# EAGLE library part RX-8035LC:B3PURESN (library RTC)
IC RTC EVENT REC I2C 12-VSOJ Manufacturer's datasheet <https://support.epson.biz/td/api/doc_check.php?dl=app_RX-8035SA_en>
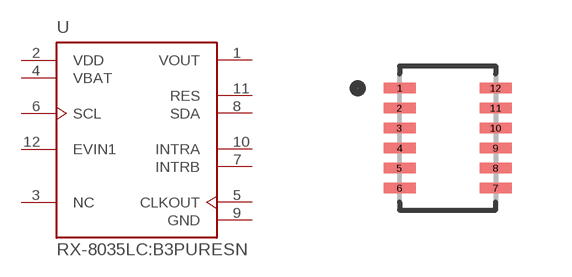
[diagram p4: symbol with the pads of RX-8035LC:B3PURESN; footprint RX-8035LC:B3PURESN]

Designator prefix U

## RX-8035LC:B3PURESN (CREATED_BY: PCBLayout.com; DIGIKEY_PARTNO: SER3802CT-ND; MANUFACTURER: EPSON; MPN: RX-8035LC:B3 PURE SN; PACKAGE: 12-VSOJ)  [RX-8035LC:B3PURESN]
1  VOUT  out
2  VDD  in
3  NC  pas
4  VBAT  pas
5  CLKOUT  out
6  SCL  in
7  INTRB  out
8  SDA
9  GND  pwr
10  INTRA  out
11  RES  out
12  EVIN1  in

## Footprint RX-8035LC:B3PURESN (pad centres in mm)
smd 0.8 x 0.27: 1 -1.2,1.25; 2 -1.2,0.75; 3 -1.2,0.25; 4 -1.2,-0.25; 5 -1.2,-0.75; 6 -1.2,-1.25; 7 1.2,-1.25; 8 1.2,-0.75; 9 1.2,-0.25; 10 1.2,0.25; 11 1.2,0.75; 12 1.2,1.25